# EAGLE library part ESP-01 (library ESP-012)
Check prices <https://pricing.snapeda.com/parts/ESP-01/AI-Thinker/view-part?ref=eda>
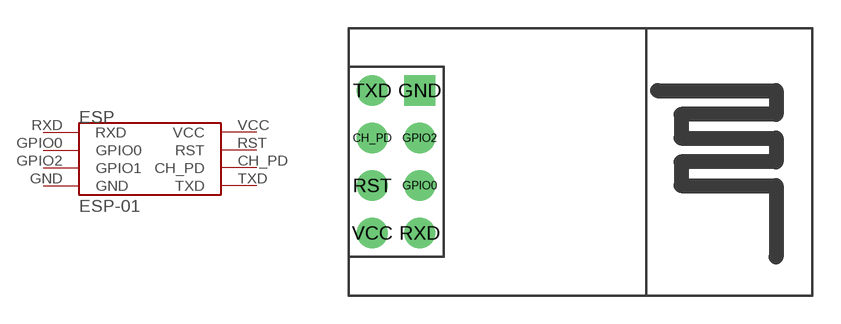
[diagram p0: symbol with the pads of ESP-01; footprint ESP-01]

Designator prefix ESP

## ESP-01 (Availability: Not in stock; Description: ESP-01M ESP8266 DIP Adapter series Transceiver; 802.11 b/g/n (Wi-Fi, WiFi, WLAN) Evaluation Board; MF: AI-Thinker; MP: ESP-01; Package: Non-Standard AI-Thinker; Price: None)  [ESP-01]
CH_PD  CH_PD
GND  GND
GPIO0  GPIO0
GPIO2  GPIO1
RST  RST
RXD  RXD
TXD  TXD
VCC  VCC

## Footprint ESP-01 (pad centres in mm)
drill 1.1: CH_PD 1.27,1.27; GPIO0 3.81,-1.27; GPIO2 3.81,1.27; RST 1.27,-1.27; RXD 3.81,-3.81; TXD 1.27,3.81; VCC 1.27,-3.81
drill 1.1 square: GND 3.81,3.81